# Altium footprint library Digital_Sampling_Board-20200820.PcbLib: 34 footprints (part 3 of 3)
Each footprint in its own frame and in the unit in brackets; x right, y up, seen from the top. Pads: shape width x height; smd on the part's side, far side on the other; paste and mask are expansions set on the pad; w line width, h text height; cw(c..) or ccw(c..) is an arc to the next point about the centre after c.
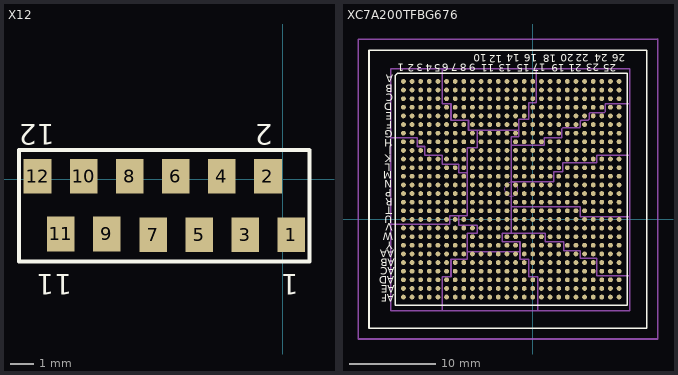
[diagram p2: the footprints below, top view; thin cyan lines are the x and y axes]

## X12 [mm]
pads (12):
  rect 1.2x1.5 smd: 1(0.38,-2.413) 2(-0.636,0.127) 3(-1.62,-2.413) 4(-2.636,0.127) 5(-3.62,-2.413) 6(-4.636,0.127) 7(-5.62,-2.413) 8(-6.636,0.127) 9(-7.636,-2.383) 10(-8.636,0.127) 11(-9.636,-2.383) 12(-10.636,0.127)
Top Overlay:
  lines w0.178: -11.441,-3.583 -11.441,1.257 -2.151,1.257 0.368,1.257 1.156,1.257 1.17,1.243 1.17,-3.583 0.368,-3.583 -2.151,-3.583 -11.441,-3.583
  text "2" at -0.42,2.384 h0.89
  text "1" at 0.69,-4.133 h0.89
  text "11" at -9.137,-4.133 h0.89
  text "12" at -9.895,2.374 h0.89

## XC7A200TFBG676 [mil]
pads (676):
  round 22 smd: A1(-589.63,629.63) A2(-550.26,629.63) A3(-510.89,629.63) A4(-471.52,629.63) A5(-432.15,629.63) A6(-392.78,629.63) A7(-353.41,629.63) A8(-314.04,629.63) A9(-274.67,629.63) A10(-235.3,629.63) A11(-195.93,629.63) A12(-156.56,629.63) A13(-117.19,629.63) A14(-77.81,629.63) A15(-38.44,629.63) A16(0.93,629.63) A17(40.3,629.63) A18(79.67,629.63) A19(119.04,629.63) A20(158.41,629.63) A21(197.78,629.63) A22(237.15,629.63) A23(276.52,629.63) A24(315.89,629.63) A25(355.26,629.63) A26(394.63,629.63) AA1(-589.63,-157.78) AA2(-550.26,-157.78) AA3(-510.89,-157.78) AA4(-471.52,-157.78) AA5(-432.15,-157.78) AA6(-392.78,-157.78) AA7(-353.41,-157.78) AA8(-314.04,-157.78) AA9(-274.67,-157.78) AA10(-235.3,-157.78) AA11(-195.93,-157.78) AA12(-156.56,-157.78) AA13(-117.19,-157.78) AA14(-77.81,-157.78) AA15(-38.44,-157.78) AA16(0.93,-157.78) AA17(40.3,-157.78) AA18(79.67,-157.78) AA19(119.04,-157.78) AA20(158.41,-157.78) AA21(197.78,-157.78) AA22(237.15,-157.78) AA23(276.52,-157.78) AA24(315.89,-157.78) AA25(355.26,-157.78) AA26(394.63,-157.78) AB1(-589.63,-197.15) AB2(-550.26,-197.15) AB3(-510.89,-197.15) AB4(-471.52,-197.15) AB5(-432.15,-197.15) AB6(-392.78,-197.15) AB7(-353.41,-197.15) AB8(-314.04,-197.15) AB9(-274.67,-197.15) AB10(-235.3,-197.15) AB11(-195.93,-197.15) AB12(-156.56,-197.15) AB13(-117.19,-197.15) AB14(-77.81,-197.15) AB15(-38.44,-197.15) AB16(0.93,-197.15) AB17(40.3,-197.15) AB18(79.67,-197.15) AB19(119.04,-197.15) AB20(158.41,-197.15) AB21(197.78,-197.15) AB22(237.15,-197.15) AB23(276.52,-197.15) AB24(315.89,-197.15) AB25(355.26,-197.15) AB26(394.63,-197.15) AC1(-589.63,-236.52) AC2(-550.26,-236.52) AC3(-510.89,-236.52) AC4(-471.52,-236.52) AC5(-432.15,-236.52) AC6(-392.78,-236.52) AC7(-353.41,-236.52) AC8(-314.04,-236.52) AC9(-274.67,-236.52) AC10(-235.3,-236.52) AC11(-195.93,-236.52) AC12(-156.56,-236.52) AC13(-117.19,-236.52) AC14(-77.81,-236.52) AC15(-38.44,-236.52) AC16(0.93,-236.52) AC17(40.3,-236.52) AC18(79.67,-236.52) AC19(119.04,-236.52) AC20(158.41,-236.52) AC21(197.78,-236.52) AC22(237.15,-236.52) AC23(276.52,-236.52) AC24(315.89,-236.52) AC25(355.26,-236.52) AC26(394.63,-236.52) AD1(-589.63,-275.89) AD2(-550.26,-275.89) AD3(-510.89,-275.89) AD4(-471.52,-275.89) AD5(-432.15,-275.89) AD6(-392.78,-275.89) AD7(-353.41,-275.89) AD8(-314.04,-275.89) AD9(-274.67,-275.89) AD10(-235.3,-275.89) AD11(-195.93,-275.89) AD12(-156.56,-275.89) AD13(-117.19,-275.89) AD14(-77.81,-275.89) AD15(-38.44,-275.89) AD16(0.93,-275.89) AD17(40.3,-275.89) AD18(79.67,-275.89) AD19(119.04,-275.89) AD20(158.41,-275.89) AD21(197.78,-275.89) AD22(237.15,-275.89) AD23(276.52,-275.89) AD24(315.89,-275.89) AD25(355.26,-275.89) AD26(394.63,-275.89) AE1(-589.63,-315.26) AE2(-550.26,-315.26) AE3(-510.89,-315.26) AE4(-471.52,-315.26) AE5(-432.15,-315.26) AE6(-392.78,-315.26) AE7(-353.41,-315.26) AE8(-314.04,-315.26) AE9(-274.67,-315.26) AE10(-235.3,-315.26) AE11(-195.93,-315.26) AE12(-156.56,-315.26) AE13(-117.19,-315.26) AE14(-77.81,-315.26) AE15(-38.44,-315.26) AE16(0.93,-315.26) AE17(40.3,-315.26) AE18(79.67,-315.26) AE19(119.04,-315.26) AE20(158.41,-315.26) AE21(197.78,-315.26) AE22(237.15,-315.26) AE23(276.52,-315.26) AE24(315.89,-315.26) AE25(355.26,-315.26) AE26(394.63,-315.26) AF1(-589.63,-354.63) AF2(-550.26,-354.63) AF3(-510.89,-354.63) AF4(-471.52,-354.63) AF5(-432.15,-354.63) AF6(-392.78,-354.63) AF7(-353.41,-354.63) AF8(-314.04,-354.63) AF9(-274.67,-354.63) AF10(-235.3,-354.63) AF11(-195.93,-354.63) AF12(-156.56,-354.63) AF13(-117.19,-354.63) AF14(-77.81,-354.63) AF15(-38.44,-354.63) AF16(0.93,-354.63) AF17(40.3,-354.63) AF18(79.67,-354.63) AF19(119.04,-354.63) AF20(158.41,-354.63) AF21(197.78,-354.63) AF22(237.15,-354.63) AF23(276.52,-354.63) AF24(315.89,-354.63) AF25(355.26,-354.63) AF26(394.63,-354.63) B1(-589.63,590.26) B2(-550.26,590.26) B3(-510.89,590.26) B4(-471.52,590.26) B5(-432.15,590.26) B6(-392.78,590.26) B7(-353.41,590.26) B8(-314.04,590.26) B9(-274.67,590.26) B10(-235.3,590.26) B11(-195.93,590.26) B12(-156.56,590.26) B13(-117.19,590.26) B14(-77.81,590.26) B15(-38.44,590.26) B16(0.93,590.26) B17(40.3,590.26) B18(79.67,590.26) B19(119.04,590.26) B20(158.41,590.26) B21(197.78,590.26) B22(237.15,590.26) B23(276.52,590.26) B24(315.89,590.26) B25(355.26,590.26) B26(394.63,590.26) C1(-589.63,550.89) C2(-550.26,550.89) C3(-510.89,550.89) C4(-471.52,550.89) C5(-432.15,550.89) C6(-392.78,550.89) C7(-353.41,550.89) C8(-314.04,550.89) C9(-274.67,550.89) C10(-235.3,550.89) C11(-195.93,550.89) C12(-156.56,550.89) C13(-117.19,550.89) C14(-77.81,550.89) C15(-38.44,550.89) C16(0.93,550.89) C17(40.3,550.89) C18(79.67,550.89) C19(119.04,550.89) C20(158.41,550.89) C21(197.78,550.89) C22(237.15,550.89) C23(276.52,550.89) C24(315.89,550.89) C25(355.26,550.89) C26(394.63,550.89) D1(-589.63,511.52) D2(-550.26,511.52) D3(-510.89,511.52) D4(-471.52,511.52) D5(-432.15,511.52) D6(-392.78,511.52) D7(-353.41,511.52) D8(-314.04,511.52) D9(-274.67,511.52) D10(-235.3,511.52) D11(-195.93,511.52) D12(-156.56,511.52) D13(-117.19,511.52) D14(-77.81,511.52) D15(-38.44,511.52) D16(0.93,511.52) D17(40.3,511.52) D18(79.67,511.52) D19(119.04,511.52) D20(158.41,511.52) D21(197.78,511.52) D22(237.15,511.52) D23(276.52,511.52) D24(315.89,511.52) D25(355.26,511.52) D26(394.63,511.52) E1(-589.63,472.15) E2(-550.26,472.15) E3(-510.89,472.15) E4(-471.52,472.15) E5(-432.15,472.15) E6(-392.78,472.15) E7(-353.41,472.15) E8(-314.04,472.15) E9(-274.67,472.15) E10(-235.3,472.15) E11(-195.93,472.15) E12(-156.56,472.15) E13(-117.19,472.15) E14(-77.81,472.15) E15(-38.44,472.15) E16(0.93,472.15) E17(40.3,472.15) E18(79.67,472.15) E19(119.04,472.15) E20(158.41,472.15) E21(197.78,472.15) E22(237.15,472.15) E23(276.52,472.15) E24(315.89,472.15) E25(355.26,472.15) E26(394.63,472.15) F1(-589.63,432.78) F2(-550.26,432.78) F3(-510.89,432.78) F4(-471.52,432.78) F5(-432.15,432.78) F6(-392.78,432.78) F7(-353.41,432.78) F8(-314.04,432.78) F9(-274.67,432.78) F10(-235.3,432.78) F11(-195.93,432.78) F12(-156.56,432.78) F13(-117.19,432.78) F14(-77.81,432.78) F15(-38.44,432.78) F16(0.93,432.78) F17(40.3,432.78) F18(79.67,432.78) F19(119.04,432.78) F20(158.41,432.78) F21(197.78,432.78) F22(237.15,432.78) F23(276.52,432.78) F24(315.89,432.78) F25(355.26,432.78) F26(394.63,432.78) G1(-589.63,393.41) G2(-550.26,393.41) G3(-510.89,393.41) G4(-471.52,393.41) G5(-432.15,393.41) G6(-392.78,393.41) G7(-353.41,393.41) G8(-314.04,393.41) G9(-274.67,393.41) G10(-235.3,393.41) G11(-195.93,393.41) G12(-156.56,393.41) G13(-117.19,393.41) G14(-77.81,393.41) G15(-38.44,393.41) G16(0.93,393.41) G17(40.3,393.41) G18(79.67,393.41) G19(119.04,393.41) G20(158.41,393.41) G21(197.78,393.41) G22(237.15,393.41) G23(276.52,393.41) G24(315.89,393.41) G25(355.26,393.41) G26(394.63,393.41) H1(-589.63,354.04) H2(-550.26,354.04) H3(-510.89,354.04) H4(-471.52,354.04) H5(-432.15,354.04) H6(-392.78,354.04) H7(-353.41,354.04) H8(-314.04,354.04) H9(-274.67,354.04) H10(-235.3,354.04) H11(-195.93,354.04) H12(-156.56,354.04) H13(-117.19,354.04) H14(-77.81,354.04) H15(-38.44,354.04) H16(0.93,354.04) H17(40.3,354.04) H18(79.67,354.04) H19(119.04,354.04) H20(158.41,354.04) H21(197.78,354.04) H22(237.15,354.04) H23(276.52,354.04) H24(315.89,354.04) H25(355.26,354.04) H26(394.63,354.04) J1(-589.63,314.67) J2(-550.26,314.67) J3(-510.89,314.67) J4(-471.52,314.67) J5(-432.15,314.67) J6(-392.78,314.67) J7(-353.41,314.67) J8(-314.04,314.67) J9(-274.67,314.67) J10(-235.3,314.67) J11(-195.93,314.67) J12(-156.56,314.67) J13(-117.19,314.67) J14(-77.81,314.67) J15(-38.44,314.67) J16(0.93,314.67) J17(40.3,314.67) J18(79.67,314.67) J19(119.04,314.67) J20(158.41,314.67) J21(197.78,314.67) J22(237.15,314.67) J23(276.52,314.67) J24(315.89,314.67) J25(355.26,314.67) J26(394.63,314.67) K1(-589.63,275.3) K2(-550.26,275.3) K3(-510.89,275.3) K4(-471.52,275.3) K5(-432.15,275.3) K6(-392.78,275.3) K7(-353.41,275.3) K8(-314.04,275.3) K9(-274.67,275.3) K10(-235.3,275.3) K11(-195.93,275.3) K12(-156.56,275.3) K13(-117.19,275.3) K14(-77.81,275.3) K15(-38.44,275.3) K16(0.93,275.3) K17(40.3,275.3) K18(79.67,275.3) K19(119.04,275.3) K20(158.41,275.3) K21(197.78,275.3) K22(237.15,275.3) K23(276.52,275.3) K24(315.89,275.3) K25(355.26,275.3) K26(394.63,275.3) L1(-589.63,235.93) L2(-550.26,235.93) L3(-510.89,235.93) L4(-471.52,235.93) L5(-432.15,235.93) L6(-392.78,235.93) L7(-353.41,235.93) L8(-314.04,235.93) L9(-274.67,235.93) L10(-235.3,235.93) L11(-195.93,235.93) L12(-156.56,235.93) L13(-117.19,235.93) L14(-77.81,235.93) L15(-38.44,235.93) L16(0.93,235.93) L17(40.3,235.93) L18(79.67,235.93) L19(119.04,235.93) L20(158.41,235.93) L21(197.78,235.93) L22(237.15,235.93) L23(276.52,235.93) L24(315.89,235.93) L25(355.26,235.93) L26(394.63,235.93) M1(-589.63,196.56) M2(-550.26,196.56) M3(-510.89,196.56) M4(-471.52,196.56) M5(-432.15,196.56) M6(-392.78,196.56) M7(-353.41,196.56) M8(-314.04,196.56) M9(-274.67,196.56) M10(-235.3,196.56) M11(-195.93,196.56) M12(-156.56,196.56) M13(-117.19,196.56) M14(-77.81,196.56) M15(-38.44,196.56) M16(0.93,196.56) M17(40.3,196.56) M18(79.67,196.56) M19(119.04,196.56) M20(158.41,196.56) M21(197.78,196.56) M22(237.15,196.56) M23(276.52,196.56) M24(315.89,196.56) M25(355.26,196.56) M26(394.63,196.56) N1(-589.63,157.19) N2(-550.26,157.19) N3(-510.89,157.19) N4(-471.52,157.19) N5(-432.15,157.19) N6(-392.78,157.19) N7(-353.41,157.19) N8(-314.04,157.19) N9(-274.67,157.19) N10(-235.3,157.19) N11(-195.93,157.19) N12(-156.56,157.19) N13(-117.19,157.19) N14(-77.81,157.19) N15(-38.44,157.19) N16(0.93,157.19) N17(40.3,157.19) N18(79.67,157.19) N19(119.04,157.19) N20(158.41,157.19) N21(197.78,157.19) N22(237.15,157.19) N23(276.52,157.19) N24(315.89,157.19) N25(355.26,157.19) N26(394.63,157.19) P1(-589.63,117.81) P2(-550.26,117.81) P3(-510.89,117.81) P4(-471.52,117.81) P5(-432.15,117.81) P6(-392.78,117.81) P7(-353.41,117.81) P8(-314.04,117.81) P9(-274.67,117.81) P10(-235.3,117.81) P11(-195.93,117.81) P12(-156.56,117.81) P13(-117.19,117.81) P14(-77.81,117.81) P15(-38.44,117.81) P16(0.93,117.81) P17(40.3,117.81) P18(79.67,117.81) P19(119.04,117.81) P20(158.41,117.81) P21(197.78,117.81) P22(237.15,117.81) P23(276.52,117.81) P24(315.89,117.81) P25(355.26,117.81) P26(394.63,117.81) R1(-589.63,78.44) R2(-550.26,78.44) R3(-510.89,78.44) R4(-471.52,78.44) R5(-432.15,78.44) R6(-392.78,78.44) R7(-353.41,78.44) R8(-314.04,78.44) R9(-274.67,78.44) R10(-235.3,78.44) R11(-195.93,78.44) R12(-156.56,78.44) R13(-117.19,78.44) R14(-77.81,78.44) R15(-38.44,78.44) R16(0.93,78.44) R17(40.3,78.44) R18(79.67,78.44) R19(119.04,78.44) R20(158.41,78.44) R21(197.78,78.44) R22(237.15,78.44) R23(276.52,78.44) R24(315.89,78.44) R25(355.26,78.44) R26(394.63,78.44) T1(-589.63,39.07) T2(-550.26,39.07) T3(-510.89,39.07) T4(-471.52,39.07) T5(-432.15,39.07) T6(-392.78,39.07) T7(-353.41,39.07) T8(-314.04,39.07) T9(-274.67,39.07) T10(-235.3,39.07) T11(-195.93,39.07) T12(-156.56,39.07) T13(-117.19,39.07) T14(-77.81,39.07) T15(-38.44,39.07) T16(0.93,39.07) T17(40.3,39.07) T18(79.67,39.07) T19(119.04,39.07) T20(158.41,39.07) T21(197.78,39.07) T22(237.15,39.07) T23(276.52,39.07) T24(315.89,39.07) T25(355.26,39.07) T26(394.63,39.07) U1(-589.63,-0.3) U2(-550.26,-0.3) U3(-510.89,-0.3) U4(-471.52,-0.3) U5(-432.15,-0.3) U6(-392.78,-0.3) U7(-353.41,-0.3) U8(-314.04,-0.3) U9(-274.67,-0.3) U10(-235.3,-0.3) U11(-195.93,-0.3) U12(-156.56,-0.3) U13(-117.19,-0.3) U14(-77.81,-0.3) U15(-38.44,-0.3) U16(0.93,-0.3) U17(40.3,-0.3) U18(79.67,-0.3) U19(119.04,-0.3) U20(158.41,-0.3) U21(197.78,-0.3) U22(237.15,-0.3) U23(276.52,-0.3) U24(315.89,-0.3) U25(355.26,-0.3) U26(394.63,-0.3) V1(-589.63,-39.67) V2(-550.26,-39.67) V3(-510.89,-39.67) V4(-471.52,-39.67) V5(-432.15,-39.67) V6(-392.78,-39.67) V7(-353.41,-39.67) V8(-314.04,-39.67) V9(-274.67,-39.67) V10(-235.3,-39.67) V11(-195.93,-39.67) V12(-156.56,-39.67) V13(-117.19,-39.67) V14(-77.81,-39.67) V15(-38.44,-39.67) V16(0.93,-39.67) V17(40.3,-39.67) V18(79.67,-39.67) V19(119.04,-39.67) V20(158.41,-39.67) V21(197.78,-39.67) V22(237.15,-39.67) V23(276.52,-39.67) V24(315.89,-39.67) V25(355.26,-39.67) V26(394.63,-39.67) W1(-589.63,-79.04) W2(-550.26,-79.04) W3(-510.89,-79.04) W4(-471.52,-79.04) W5(-432.15,-79.04) W6(-392.78,-79.04) W7(-353.41,-79.04) W8(-314.04,-79.04) W9(-274.67,-79.04) W10(-235.3,-79.04) W11(-195.93,-79.04) W12(-156.56,-79.04) W13(-117.19,-79.04) W14(-77.81,-79.04) W15(-38.44,-79.04) W16(0.93,-79.04) W17(40.3,-79.04) W18(79.67,-79.04) W19(119.04,-79.04) W20(158.41,-79.04) W21(197.78,-79.04) W22(237.15,-79.04) W23(276.52,-79.04) W24(315.89,-79.04) W25(355.26,-79.04) W26(394.63,-79.04) Y1(-589.63,-118.41) Y2(-550.26,-118.41) Y3(-510.89,-118.41) Y4(-471.52,-118.41) Y5(-432.15,-118.41) Y6(-392.78,-118.41) Y7(-353.41,-118.41) Y8(-314.04,-118.41) Y9(-274.67,-118.41) Y10(-235.3,-118.41) Y11(-195.93,-118.41) Y12(-156.56,-118.41) Y13(-117.19,-118.41) Y14(-77.81,-118.41) Y15(-38.44,-118.41) Y16(0.93,-118.41) Y17(40.3,-118.41) Y18(79.67,-118.41) Y19(119.04,-118.41) Y20(158.41,-118.41) Y21(197.78,-118.41) Y22(237.15,-118.41) Y23(276.52,-118.41) Y24(315.89,-118.41) Y25(355.26,-118.41) Y26(394.63,-118.41)
Top Overlay:
  lines w7: -746.64,-496.82 -746.64,771.88 522.06,771.88 522.06,-496.82 -746.64,-496.82 ; -627.03,-392.03 432.03,-392.03 432.03,667.03 -616.79,667.03 -627.03,656.79 -627.03,-392.03
  text "A" at -635.34,660 h35
  text "B" at -639.36,614.17 h35
  text "C" at -635.34,573.18 h35
  text "D" at -640.35,531.94 h35
  text "E" at -639.69,488.75 h35
  text "F" at -640.35,447.76 h35
  text "G" at -639.36,406.77 h35
  text "H" at -640.35,365.77 h35
  text "J" at -643.49,331.39 h35
  text "K" at -642.83,295.16 h35
  text "L" at -646.9,253.48 h35
  text "M" at -639.69,218.54 h35
  text "N" at -640.9,177.55 h35
  text "P" at -642.83,136.56 h35
  text "R" at -639.36,95.56 h35
  text "T" at -640.35,57.04 h35
  text "U" at -639.69,16.04 h35
  text "V" at -638.18,-18.04 h35
  text "W" at -635.81,-60.33 h35
  text "Y" at -639.36,-101.32 h35
  text "AA" at -631.01,-139.12 h35
  text "AB" at -629.81,-180.11 h35
  text "AC" at -629.99,-218.71 h35
  text "AD" at -631.01,-259.7 h35
  text "AE" at -629.99,-300.69 h35
  text "AF" at -631.01,-341.69 h35
  text "1" at -586.23,710 h35
  text "2" at -539.26,709 h35
  text "3" at -499.85,711.37 h35
  text "4" at -457.22,708.66 h35
  text "5" at -419.62,708.47 h35
  text "6" at -382.22,710.02 h35
  text "7" at -342.32,711 h35
  text "8" at -301.22,710.02 h35
  text "9" at -260,710.02 h35
  text "10" at -209.75,752.84 h35
  text "11" at -175.45,707.3 h35
  text "12" at -138.05,749.74 h35
  text "13" at -95.42,708.85 h35
  text "14" at -59.05,752.84 h35
  text "15" at -13.25,709.05 h35
  text "16" at 21.53,752.6 h35
  text "17" at 60.88,709.17 h35
  text "18" at 107.01,751.92 h35
  text "19" at 145.88,708.85 h35
  text "20" at 187.75,753.95 h35
  text "21" at 223.86,708 h35
  text "22" at 257.29,753.27 h35
  text "23" at 303.53,709.17 h35
  text "24" at 343.01,753.27 h35
  text "25" at 382,707.3 h35
  text "26" at 423.31,752.84 h35
Mechanical 2:
  circle w1: c-97.5,137.5 r31.25
  lines w7: 571.1,-542.91 571.1,823.23 ; 571.28,-546.04 -795.85,-546.04 -795.85,821.09 571.28,821.09
Mechanical 16:
  lines w7: -337.5,17.5 -337.5,-27.5 -252.5,-27.5 -252.5,-62.5 -297.5,-62.5 -297.5,-182.5 -372.5,-182.5 -372.5,-262.5 -412.5,-262.5 -412.5,-417.5 ; -297.5,-147.5 -57.5,-147.5 ; -62.5,407.5 -252.5,407.5 ; -647.5,-22.5 -377.5,-22.5 -377.5,17.5 -297.5,17.5 -297.5,212.5 ; -647.5,-22.5 -647.5,372.5 ; -647.5,-22.5 -647.5,-417.5 -412.5,-417.5 ; -647.5,372.5 -647.5,687.5 -412.5,687.5 ; -647.5,372.5 -527.5,372.5 -527.5,332.5 -492.5,332.5 -492.5,292.5 -412.5,292.5 -412.5,252.5 -337.5,252.5 -337.5,212.5 -297.5,212.5 ; -412.5,-417.5 22.5,-417.5 ; -412.5,687.5 17.5,687.5 ; -412.5,687.5 -412.5,527.5 -372.5,527.5 -372.5,452.5 -292.5,452.5 -292.5,407.5 -252.5,407.5 ; -297.5,212.5 -297.5,327.5 -252.5,327.5 -252.5,407.5 ; -97.5,-62.5 -97.5,57.5 ; -97.5,-62.5 57.5,-62.5 57.5,-102.5 142.5,-102.5 142.5,-142.5 217.5,-142.5 217.5,-177.5 292.5,-177.5 292.5,-257.5 442.5,-257.5 ; -97.5,-62.5 -137.5,-62.5 -137.5,-102.5 -57.5,-102.5 -57.5,-182.5 -17.5,-182.5 -17.5,-262.5 22.5,-262.5 22.5,-417.5 ; -97.5,57.5 -97.5,172.5 ; -97.5,57.5 217.5,57.5 217.5,12.5 442.5,12.5 ; -97.5,172.5 -97.5,337.5 ; -97.5,172.5 97.5,172.5 97.5,217.5 137.5,217.5 137.5,257.5 292.5,257.5 292.5,292.5 442.5,292.5 ; -97.5,337.5 52.5,337.5 52.5,372.5 132.5,372.5 132.5,412.5 137.5,417.5 212.5,417.5 217.5,422.5 217.5,447.5 222.5,452.5 252.5,452.5 257.5,457.5 257.5,482.5 262.5,487.5 327.5,487.5 332.5,492.5 332.5,527.5 442.5,527.5 ; -97.5,337.5 -97.5,377.5 -62.5,377.5 -62.5,457.5 -17.5,457.5 -17.5,532.5 17.5,532.5 17.5,657.5 17.5,687.5 ; 17.5,687.5 442.5,687.5 442.5,527.5 ; 22.5,-417.5 442.5,-417.5 442.5,-257.5 ; 442.5,-257.5 442.5,12.5 ; 442.5,12.5 442.5,292.5 ; 442.5,292.5 442.5,527.5
  text "F24" at 339.89,432.78 h35
  text "K19" at 143.04,275.3 h35
  text "R25" at 379.26,78.44 h35
  text "M16" at 24.93,196.56 h35
  text "Bank 15" at 417.5,452.5 h35
  text "Bank 14" at 417.5,207.5 h35
  text "Bank 13" at 417.5,-52.5 h35
  text "Bank 16" at 352.5,677.5 h35
  text "Bank 12" at 292.5,-387.5 h35
  text "Bank MGT-116" at -117.5,677.5 h35
  text "Bank MGT-113" at -122.5,-387.5 h35
  text "Bank 35" at -477.5,677.5 h35
  text "Bank 34" at -637.5,272.5 h35
  text "Bank 33" at -637.5,-197.5 h35
  text "B16" at 24.93,590.26 h35
  text "AD16" at 32.93,-275.89 h35
  text "B15" at -14.44,590.26 h35
  text "A14" at -53.81,629.63 h35
  text "E12" at -132.56,472.15 h35
  text "C13" at -93.19,550.89 h35
  text "E15" at -14.44,472.15 h35
  text "J12" at -132.56,314.67 h35
  text "G13" at -93.19,393.41 h35
  text "L12" at -132.56,235.93 h35
  text "M13" at -93.19,196.56 h35
  text "U12" at -132.56,-0.3 h35
  text "T13" at -93.19,39.07 h35
  text "W12" at -132.56,-79.04 h35
  text "AB12" at -124.56,-197.15 h35
  text "AF12" at -124.56,-354.63 h35
  text "AD13" at -85.19,-275.89 h35
  text "AC15" at -6.44,-236.52 h35
  text "C9" at -258.67,550.89 h35
  text "E10" at -211.3,472.15 h35
  text "F9" at -258.67,432.78 h35
  text "G11" at -171.93,393.41 h35
  text "K9" at -258.67,275.3 h35
  text "K11" at -171.93,275.3 h35
  text "L10" at -211.3,235.93 h35
  text "M9" at -258.67,196.56 h35
  text "P9" at -258.67,117.81 h35
  text "AA9" at -250.67,-157.78 h35
  text "AF10" at -203.3,-354.63 h35
  text "AD9" at -250.67,-275.89 h35
  text "AD11" at -163.93,-275.89 h35
  text "D7" at -337.41,511.52 h35
  text "P7" at -337.41,117.81 h35
  text "AD6" at -368.78,-275.89 h35
  text "M3" at -494.89,196.56 h35
  text "A8" at -298.04,629.63 h35
  text "AB23" at 308.52,-197.15 h35
  text "W22" at 261.15,-79.04 h35
  text "V25" at 379.26,-39.67 h35
  text "T21" at 221.78,39.07 h35
  text "R24" at 339.89,78.44 h35
  text "A26" at 418.63,629.63 h35
  text "B23" at 300.52,590.26 h35
  text "A16" at 24.93,629.63 h35
  text "A10" at -211.3,629.63 h35
  text "A12" at -132.56,629.63 h35
  text "B6" at -376.78,590.26 h35
  text "A6" at -376.78,629.63 h35
  text "B3" at -494.89,590.26 h35
  text "C20" at 182.41,550.89 h35
  text "F21" at 221.78,432.78 h35
  text "E24" at 339.89,472.15 h35
  text "C16" at 24.93,550.89 h35
  text "D17" at 64.3,511.52 h35
  text "F14" at -53.81,432.78 h35
  text "E14" at -53.81,472.15 h35
  text "D15" at -14.44,511.52 h35
  text "E8" at -298.04,472.15 h35
  text "E9" at -258.67,472.15 h35
  text "C11" at -171.93,550.89 h35
  text "C6" at -376.78,550.89 h35
  text "E7" at -337.41,472.15 h35
  text "E4" at -455.52,472.15 h35
  text "F1" at -573.63,432.78 h35
  text "H25" at 379.26,354.04 h35
  text "J22" at 261.15,314.67 h35
  text "G18" at 103.67,393.41 h35
  text "K13" at -93.19,275.3 h35
  text "G10" at -211.3,393.41 h35
  text "G12" at -132.56,393.41 h35
  text "H5" at -416.15,354.04 h35
  text "J2" at -534.26,314.67 h35
  text "L26" at 418.63,235.93 h35
  text "N20" at 182.41,157.19 h35
  text "M23" at 300.52,196.56 h35
  text "P17" at 64.3,117.81 h35
  text "L16" at 24.93,235.93 h35
  text "P13" at -93.19,117.81 h35
  text "N10" at -211.3,157.19 h35
  text "L6" at -376.78,235.93 h35
  text "U18" at 103.67,-0.3 h35
  text "V13" at -93.19,-39.67 h35
  text "V15" at -14.44,-39.67 h35
  text "U10" at -211.3,-0.3 h35
  text "T11" at -171.93,39.07 h35
  text "U8" at -298.04,-0.3 h35
  text "T9" at -258.67,39.07 h35
  text "R10" at -211.3,78.44 h35
  text "V5" at -416.15,-39.67 h35
  text "R4" at -455.52,78.44 h35
  text "T1" at -573.63,39.07 h35
  text "AA16" at 32.93,-157.78 h35
  text "Y19" at 143.04,-118.41 h35
  text "Y13" at -93.19,-118.41 h35
  text "AB14" at -45.81,-197.15 h35
  text "AA14" at -45.81,-157.78 h35
  text "AB8" at -290.04,-197.15 h35
  text "AB9" at -250.67,-197.15 h35
  text "Y10" at -211.3,-118.41 h35
  text "AB10" at -203.3,-197.15 h35
  text "Y11" at -171.93,-118.41 h35
  text "Y12" at -132.56,-118.41 h35
  text "AA6" at -368.78,-157.78 h35
  text "AB3" at -486.89,-197.15 h35
  text "W2" at -534.26,-79.04 h35
  text "AC20" at 190.41,-236.52 h35
  text "AF21" at 229.78,-354.63 h35
  text "AE24" at 347.89,-315.26 h35
  text "AF16" at 32.93,-354.63 h35
  text "AF14" at -45.81,-354.63 h35
  text "AE15" at -6.44,-315.26 h35
  text "AF8" at -290.04,-354.63 h35
  text "AE4" at -447.52,-315.26 h35
  text "AF6" at -368.78,-354.63 h35
  text "AE6" at -368.78,-315.26 h35
  text "AC7" at -329.41,-236.52 h35
  text "AF1" at -565.63,-354.63 h35
  text "AA26" at 426.63,-157.78 h35
  text "U4" at -455.52,-0.3 h35
  text "M4" at -455.52,196.56 h35
  text "J3" at -494.89,314.67 h35
  text "J1" at -573.63,314.67 h35
  text "L4" at -455.52,235.93 h35
  text "K5" at -416.15,275.3 h35
  text "M7" at -337.41,196.56 h35
  text "K1" at -573.63,275.3 h35
  text "M6" at -376.78,196.56 h35
  text "H1" at -573.63,354.04 h35
  text "K3" at -494.89,275.3 h35
  text "N7" at -337.41,157.19 h35
  text "L5" at -416.15,235.93 h35
  text "L7" at -337.41,235.93 h35
  text "N6" at -376.78,157.19 h35
  text "L3" at -494.89,235.93 h35
  text "K2" at -534.26,275.3 h35
  text "N1" at -573.63,157.19 h35
  text "M1" at -573.63,196.56 h35
  text "H2" at -534.26,354.04 h35
  text "T4" at -455.52,39.07 h35
  text "P4" at -455.52,117.81 h35
  text "N4" at -455.52,157.19 h35
  text "L2" at -534.26,235.93 h35
  text "M2" at -534.26,196.56 h35
  text "N2" at -534.26,157.19 h35
  text "N3" at -494.89,157.19 h35
  text "AB6" at -368.78,-197.15 h35
  text "AA8" at -290.04,-157.78 h35
  text "Y8" at -298.04,-118.41 h35
  text "AB5" at -408.15,-197.15 h35
  text "AA5" at -408.15,-157.78 h35
  text "Y5" at -416.15,-118.41 h35
  text "Y6" at -376.78,-118.41 h35
  text "Y7" at -337.41,-118.41 h35
  text "AF4" at -447.52,-354.63 h35
  text "AF5" at -408.15,-354.63 h35
  text "AF3" at -486.89,-354.63 h35
  text "AE3" at -486.89,-315.26 h35
  text "AD3" at -486.89,-275.89 h35
  text "AC3" at -486.89,-236.52 h35
  text "AB4" at -447.52,-197.15 h35
  text "AA4" at -447.52,-157.78 h35
  text "AC2" at -526.26,-236.52 h35
  text "AB2" at -526.26,-197.15 h35
  text "AF2" at -526.26,-354.63 h35
  text "AE2" at -526.26,-315.26 h35
  text "Y1" at -573.63,-118.41 h35
  text "Y2" at -534.26,-118.41 h35
  text "AC1" at -565.63,-236.52 h35
  text "AB1" at -565.63,-197.15 h35
  text "Y3" at -494.89,-118.41 h35
  text "W3" at -494.89,-79.04 h35
  text "W6" at -376.78,-79.04 h35
  text "V6" at -376.78,-39.67 h35
  text "W4" at -455.52,-79.04 h35
  text "W5" at -416.15,-79.04 h35
  text "W1" at -573.63,-79.04 h35
  text "V1" at -573.63,-39.67 h35
  text "G2" at -534.26,393.41 h35
  text "D1" at -573.63,511.52 h35
  text "E1" at -573.63,472.15 h35
  text "E2" at -534.26,472.15 h35
  text "F2" at -534.26,432.78 h35
  text "A2" at -534.26,629.63 h35
  text "A3" at -494.89,629.63 h35
  text "C2" at -534.26,550.89 h35
  text "C3" at -494.89,550.89 h35
  text "D3" at -494.89,511.52 h35
  text "A4" at -455.52,629.63 h35
  text "B4" at -455.52,590.26 h35
  text "C4" at -455.52,550.89 h35
  text "D4" at -455.52,511.52 h35
  text "D5" at -416.15,511.52 h35
  text "E5" at -416.15,472.15 h35
  text "F4" at -455.52,432.78 h35
  text "G4" at -455.52,393.41 h35
  text "K6" at -376.78,275.3 h35
  text "K7" at -337.41,275.3 h35
  text "K8" at -298.04,275.3 h35
  text "L8" at -298.04,235.93 h35
  text "J5" at -416.15,314.67 h35
  text "J6" at -376.78,314.67 h35
  text "G6" at -376.78,393.41 h35
  text "H6" at -376.78,354.04 h35
  text "F7" at -337.41,432.78 h35
  text "F8" at -298.04,432.78 h35
  text "G8" at -298.04,393.41 h35
  text "H8" at -298.04,354.04 h35
  text "D6" at -376.78,511.52 h35
  text "E6" at -376.78,472.15 h35
  text "AC6" at -368.78,-236.52 h35
  text "AC4" at -447.52,-236.52 h35
  text "AA3" at -486.89,-157.78 h35
  text "U7" at -337.41,-0.3 h35
  text "G1" at -573.63,393.41 h35
  text "F3" at -494.89,432.78 h35
  text "G5" at -416.15,393.41 h35
  text "H9" at -258.67,354.04 h35
  text "W8" at -298.04,-79.04 h35
  text "V8" at -298.04,-39.67 h35
  text "AE5" at -408.15,-315.26 h35
  text "AD5" at -408.15,-275.89 h35
  text "AE1" at -565.63,-315.26 h35
  text "AD1" at -565.63,-275.89 h35
  text "V2" at -534.26,-39.67 h35
  text "V3" at -494.89,-39.67 h35
  text "B1" at -573.63,590.26 h35
  text "C1" at -573.63,550.89 h35
  text "A5" at -416.15,629.63 h35
  text "B5" at -416.15,590.26 h35
  text "H4" at -455.52,354.04 h35
  text "J4" at -455.52,314.67 h35
  text "G7" at -337.41,393.41 h35
  text "H7" at -337.41,354.04 h35
  text "R2" at -534.26,78.44 h35
  text "U2" at -534.26,-0.3 h35
  text "P1" at -573.63,117.81 h35
  text "N8" at -298.04,157.19 h35
  text "T3" at -494.89,39.07 h35
  text "T2" at -534.26,39.07 h35
  text "U1" at -573.63,-0.3 h35
  text "R1" at -573.63,78.44 h35
  text "R14" at -53.81,78.44 h35
  text "R15" at -14.44,78.44 h35
  text "P14" at -53.81,117.81 h35
  text "N14" at -53.81,157.19 h35
  text "V11" at -171.93,-39.67 h35
  text "P8" at -298.04,117.81 h35
  text "R7" at -337.41,78.44 h35
  text "R6" at -376.78,78.44 h35
  text "U6" at -376.78,-0.3 h35
  text "U5" at -416.15,-0.3 h35
  text "P6" at -376.78,117.81 h35
  text "T5" at -416.15,39.07 h35
  text "R5" at -416.15,78.44 h35
  text "N18" at 103.67,157.19 h35
  text "K25" at 379.26,275.3 h35
  text "L25" at 379.26,235.93 h35
  text "M24" at 339.89,196.56 h35
  text "M25" at 379.26,196.56 h35
  text "L22" at 261.15,235.93 h35
  text "L20" at 182.41,235.93 h35
  text "L23" at 300.52,235.93 h35
  text "L24" at 339.89,235.93 h35
  text "E11" at -171.93,472.15 h35
  text "F11" at -171.93,432.78 h35
  text "C12" at -132.56,550.89 h35
  text "D12" at -132.56,511.52 h35
  text "A13" at -93.19,629.63 h35
  text "B13" at -93.19,590.26 h35
  text "C14" at -53.81,550.89 h35
  text "D14" at -53.81,511.52 h35
  text "A11" at -171.93,629.63 h35
  text "B11" at -171.93,590.26 h35
  text "C10" at -211.3,550.89 h35
  text "D10" at -211.3,511.52 h35
  text "A9" at -258.67,629.63 h35
  text "B9" at -258.67,590.26 h35
  text "C8" at -298.04,550.89 h35
  text "D8" at -298.04,511.52 h35
  text "A7" at -337.41,629.63 h35
  text "B7" at -337.41,590.26 h35
  text "K26" at 418.63,275.3 h35
  text "W18" at 103.67,-79.04 h35
  text "T14" at -53.81,39.07 h35
  text "U17" at 64.3,-0.3 h35
  text "V17" at 64.3,-39.67 h35
  text "V16" at 24.93,-39.67 h35
  text "V14" at -53.81,-39.67 h35
  text "U16" at 24.93,-0.3 h35
  text "U15" at -14.44,-0.3 h35
  text "T18" at 103.67,39.07 h35
  text "T17" at 64.3,39.07 h35
  text "R23" at 300.52,78.44 h35
  text "AD12" at -124.56,-275.89 h35
  text "AC12" at -124.56,-236.52 h35
  text "R18" at 103.67,78.44 h35
  text "AD10" at -203.3,-275.89 h35
  text "AC10" at -203.3,-236.52 h35
  text "P3" at -494.89,117.81 h35
  text "R3" at -494.89,78.44 h35
  text "H23" at 300.52,354.04 h35
  text "J23" at 300.52,314.67 h35
  text "T7" at -337.41,39.07 h35
  text "T8" at -298.04,39.07 h35
  text "L13" at -93.19,235.93 h35
  text "L11" at -171.93,235.93 h35
  text "K12" at -132.56,275.3 h35
  text "K10" at -211.3,275.3 h35
  text "J13" at -93.19,314.67 h35
  text "J11" at -171.93,314.67 h35
  text "V10" at -211.3,-39.67 h35
  text "V12" at -132.56,-39.67 h35
  text "M10" at -211.3,196.56 h35
  text "P10" at -211.3,117.81 h35
  text "U11" at -171.93,-0.3 h35
  text "T12" at -132.56,39.07 h35
  text "T10" at -211.3,39.07 h35
  text "V7" at -337.41,-39.67 h35
  text "AA7" at -329.41,-157.78 h35
  text "M5" at -416.15,196.56 h35
  text "P5" at -416.15,117.81 h35
  text "G9" at -258.67,393.41 h35
  text "B2" at -534.26,590.26 h35
  text "J9" at -258.67,314.67 h35
  text "L9" at -258.67,235.93 h35
  text "N9" at -258.67,157.19 h35
  text "R9" at -258.67,78.44 h35
  text "U9" at -258.67,-0.3 h35
  text "C7" at -337.41,550.89 h35
  text "C15" at -14.44,550.89 h35
  text "B8" at -298.04,590.26 h35
  text "B14" at -53.81,590.26 h35
  text "B12" at -132.56,590.26 h35
  text "B10" at -211.3,590.26 h35
  text "AE12" at -124.56,-315.26 h35
  text "AD15" at -6.44,-275.89 h35
  text "AE14" at -45.81,-315.26 h35
  text "AE10" at -203.3,-315.26 h35
  text "AE8" at -290.04,-315.26 h35
  text "AD7" at -329.41,-275.89 h35
  text "M20" at 182.41,196.56 h35
  text "N22" at 261.15,157.19 h35
  text "P20" at 182.41,117.81 h35
  text "N21" at 221.78,157.19 h35
  text "N24" at 339.89,157.19 h35
  text "N23" at 300.52,157.19 h35
  text "P19" at 143.04,117.81 h35
  text "N19" at 143.04,157.19 h35
  text "P23" at 300.52,117.81 h35
  text "P24" at 339.89,117.81 h35
  text "R20" at 182.41,78.44 h35
  text "P21" at 221.78,117.81 h35
  text "M22" at 261.15,196.56 h35
  text "M21" at 221.78,196.56 h35
  text "M11" at -171.93,196.56 h35
  text "N11" at -171.93,157.19 h35
  text "R11" at -171.93,78.44 h35
  text "R12" at -132.56,78.44 h35
  text "M12" at -132.56,196.56 h35
  text "P12" at -132.56,117.81 h35
  text "W10" at -211.3,-79.04 h35
  text "AB7" at -329.41,-197.15 h35
  text "Y9" at -258.67,-118.41 h35
  text "W9" at -258.67,-79.04 h35
  text "AE16" at 32.93,-315.26 h35
  text "G14" at -53.81,393.41 h35
  text "AC13" at -85.19,-236.52 h35
  text "F12" at -132.56,432.78 h35
  text "AA12" at -124.56,-157.78 h35
  text "F10" at -211.3,432.78 h35
  text "AA10" at -203.3,-157.78 h35
  text "AC9" at -250.67,-236.52 h35
  text "AC11" at -163.93,-236.52 h35
  text "D11" at -171.93,511.52 h35
  text "D13" at -93.19,511.52 h35
  text "D9" at -258.67,511.52 h35
  text "R17" at 64.3,78.44 h35
  text "D24" at 339.89,511.52 h35
  text "D23" at 300.52,511.52 h35
  text "H12" at -132.56,354.04 h35
  text "H11" at -171.93,354.04 h35
  text "H13" at -93.19,354.04 h35
  text "J26" at 418.63,314.67 h35
  text "J25" at 379.26,314.67 h35
  text "P16" at 24.93,117.81 h35
  text "J10" at -211.3,314.67 h35
  text "H10" at -211.3,354.04 h35
  text "W21" at 221.78,-79.04 h35
  text "V21" at 221.78,-39.67 h35
  text "AA24" at 347.89,-157.78 h35
  text "Y25" at 379.26,-118.41 h35
  text "Y26" at 418.63,-118.41 h35
  text "V26" at 418.63,-39.67 h35
  text "W26" at 418.63,-79.04 h35
  text "W25" at 379.26,-79.04 h35
  text "W24" at 339.89,-79.04 h35
  text "U26" at 418.63,-0.3 h35
  text "U25" at 379.26,-0.3 h35
  text "V24" at 339.89,-39.67 h35
  text "AB26" at 426.63,-197.15 h35
  text "AA22" at 269.15,-157.78 h35
  text "Y21" at 221.78,-118.41 h35
  text "AC26" at 426.63,-236.52 h35
  text "T20" at 182.41,39.07 h35
  text "P18" at 103.67,117.81 h35
  text "M26" at 418.63,196.56 h35
  text "T24" at 339.89,39.07 h35
  text "R16" at 24.93,78.44 h35
  text "R8" at -298.04,78.44 h35
  text "R26" at 418.63,78.44 h35
  text "R13" at -93.19,78.44 h35
  text "W13" at -93.19,-79.04 h35
  text "N13" at -93.19,157.19 h35
  text "U13" at -93.19,-0.3 h35
  text "H17" at 64.3,354.04 h35
  text "E22" at 261.15,472.15 h35
  text "K18" at 103.67,275.3 h35
  text "L19" at 143.04,235.93 h35
  text "C19" at 143.04,550.89 h35
  text "D19" at 143.04,511.52 h35
  text "H22" at 261.15,354.04 h35
  text "H21" at 221.78,354.04 h35
  text "AB19" at 151.04,-197.15 h35
  text "AA19" at 151.04,-157.78 h35
  text "AC21" at 229.78,-236.52 h35
  text "AB21" at 229.78,-197.15 h35
  text "AE26" at 426.63,-315.26 h35
  text "AE25" at 387.26,-315.26 h35
  text "AC23" at 308.52,-236.52 h35
  text "AC22" at 269.15,-236.52 h35
  text "AF25" at 387.26,-354.63 h35
  text "AD26" at 426.63,-275.89 h35
  text "AD25" at 387.26,-275.89 h35
  text "AF23" at 308.52,-354.63 h35
  text "AE23" at 308.52,-315.26 h35
  text "AD24" at 347.89,-275.89 h35
  text "AD23" at 308.52,-275.89 h35
  text "AE21" at 229.78,-315.26 h35
  text "AD21" at 229.78,-275.89 h35
  text "AF20" at 190.41,-354.63 h35
  text "AF19" at 151.04,-354.63 h35
  text "AE22" at 269.15,-315.26 h35
  text "AE20" at 190.41,-315.26 h35
  text "AD20" at 190.41,-275.89 h35
  text "AD19" at 151.04,-275.89 h35
  text "AC19" at 151.04,-236.52 h35
  text "AD18" at 111.67,-275.89 h35
  text "AC18" at 111.67,-236.52 h35
  text "AF18" at 111.67,-354.63 h35
  text "AE18" at 111.67,-315.26 h35
  text "AA18" at 111.67,-157.78 h35
  text "Y18" at 103.67,-118.41 h35
  text "AF17" at 72.3,-354.63 h35
  text "AE17" at 72.3,-315.26 h35
  text "AB20" at 190.41,-197.15 h35
  text "AA20" at 190.41,-157.78 h35
  text "AB17" at 72.3,-197.15 h35
  text "AA17" at 72.3,-157.78 h35
  text "AD17" at 72.3,-275.89 h35
  text "AC17" at 72.3,-236.52 h35
  text "Y17" at 64.3,-118.41 h35
  text "Y16" at 24.93,-118.41 h35
  text "AC16" at 32.93,-236.52 h35
  text "AB16" at 32.93,-197.15 h35
  text "AA15" at -6.44,-157.78 h35
  text "Y15" at -14.44,-118.41 h35
  text "W15" at -14.44,-79.04 h35
  text "W14" at -53.81,-79.04 h35
  text "C18" at 103.67,550.89 h35
  text "D18" at 103.67,511.52 h35
  text "E18" at 103.67,472.15 h35
  text "E17" at 64.3,472.15 h35
  text "H15" at -14.44,354.04 h35
  text "H14" at -53.81,354.04 h35
  text "F17" at 64.3,432.78 h35
  text "G17" at 64.3,393.41 h35
  text "F19" at 143.04,432.78 h35
  text "F18" at 103.67,432.78 h35
  text "F15" at -14.44,432.78 h35
  text "G15" at -14.44,393.41 h35
  text "F20" at 182.41,432.78 h35
  text "G19" at 143.04,393.41 h35
  text "G16" at 24.93,393.41 h35
  text "H16" at 24.93,354.04 h35
  text "B17" at 64.3,590.26 h35
  text "C17" at 64.3,550.89 h35
  text "D16" at 24.93,511.52 h35
  text "E16" at 24.93,472.15 h35
  text "A18" at 103.67,629.63 h35
  text "A17" at 64.3,629.63 h35
  text "A19" at 143.04,629.63 h35
  text "B19" at 143.04,590.26 h35
  text "D20" at 182.41,511.52 h35
  text "E20" at 182.41,472.15 h35
  text "A20" at 182.41,629.63 h35
  text "B20" at 182.41,590.26 h35
  text "B21" at 221.78,590.26 h35
  text "C21" at 221.78,550.89 h35
  text "A22" at 261.15,629.63 h35
  text "B22" at 261.15,590.26 h35
  text "D21" at 221.78,511.52 h35
  text "E21" at 221.78,472.15 h35
  text "J21" at 221.78,314.67 h35
  text "K21" at 221.78,275.3 h35
  text "G21" at 221.78,393.41 h35
  text "G20" at 182.41,393.41 h35
  text "L14" at -53.81,235.93 h35
  text "M14" at -53.81,196.56 h35
  text "M17" at 64.3,196.56 h35
  text "H19" at 143.04,354.04 h35
  text "J19" at 143.04,314.67 h35
  text "L18" at 103.67,235.93 h35
  text "L17" at 64.3,235.93 h35
  text "J20" at 182.41,314.67 h35
  text "K20" at 182.41,275.3 h35
  text "H18" at 103.67,354.04 h35
  text "J18" at 103.67,314.67 h35
  text "F22" at 261.15,432.78 h35
  text "G22" at 261.15,393.41 h35
  text "H24" at 339.89,354.04 h35
  text "J24" at 339.89,314.67 h35
  text "E23" at 300.52,472.15 h35
  text "F23" at 300.52,432.78 h35
  text "K23" at 300.52,275.3 h35
  text "K22" at 261.15,275.3 h35
  text "G24" at 339.89,393.41 h35
  text "D25" at 379.26,511.52 h35
  text "E25" at 379.26,472.15 h35
  text "D26" at 418.63,511.52 h35
  text "E26" at 418.63,472.15 h35
  text "G26" at 418.63,393.41 h35
  text "H26" at 418.63,354.04 h35
  text "F25" at 379.26,432.78 h35
  text "G25" at 379.26,393.41 h35
  text "N17" at 64.3,157.19 h35
  text "N16" at 24.93,157.19 h35
  text "P2" at -534.26,117.81 h35
  text "U3" at -494.89,-0.3 h35
  text "AA1" at -565.63,-157.78 h35
  text "T6" at -376.78,39.07 h35
  text "Y4" at -455.52,-118.41 h35
  text "W7" at -337.41,-79.04 h35
  text "A1" at -573.63,629.63 h35
  text "C5" at -416.15,550.89 h35
  text "F6" at -376.78,432.78 h35
  text "D2" at -534.26,511.52 h35
  text "K4" at -455.52,275.3 h35
  text "J7" at -337.41,314.67 h35
  text "G3" at -494.89,393.41 h35
  text "N5" at -416.15,157.19 h35
  text "L1" at -573.63,235.93 h35
  text "AC5" at -408.15,-236.52 h35
  text "AD2" at -526.26,-275.89 h35
  text "M8" at -298.04,196.56 h35
  text "U20" at 182.41,-0.3 h35
  text "W23" at 300.52,-79.04 h35
  text "W20" at 182.41,-79.04 h35
  text "U24" at 339.89,-0.3 h35
  text "Y20" at 182.41,-118.41 h35
  text "V23" at 300.52,-39.67 h35
  text "AA23" at 308.52,-157.78 h35
  text "AA25" at 387.26,-157.78 h35
  text "AB25" at 387.26,-197.15 h35
  text "AC24" at 347.89,-236.52 h35
  text "AB24" at 347.89,-197.15 h35
  text "Y22" at 261.15,-118.41 h35
  text "Y23" at 300.52,-118.41 h35
  text "V22" at 261.15,-39.67 h35
  text "V18" at 103.67,-39.67 h35
  text "U21" at 221.78,-0.3 h35
  text "U14" at -53.81,-0.3 h35
  text "U22" at 261.15,-0.3 h35
  text "T15" at -14.44,39.07 h35
  text "M19" at 143.04,196.56 h35
  text "B24" at 339.89,590.26 h35
  text "W19" at 143.04,-79.04 h35
  text "V19" at 143.04,-39.67 h35
  text "U19" at 143.04,-0.3 h35
  text "T19" at 143.04,39.07 h35
  text "AE19" at 151.04,-315.26 h35
  text "AD22" at 269.15,-275.89 h35
  text "AF26" at 426.63,-354.63 h35
  text "AB18" at 111.67,-197.15 h35
  text "W17" at 64.3,-79.04 h35
  text "AA21" at 229.78,-157.78 h35
  text "K14" at -53.81,275.3 h35
  text "M18" at 103.67,196.56 h35
  text "J17" at 64.3,314.67 h35
  text "H20" at 182.41,354.04 h35
  text "G23" at 300.52,393.41 h35
  text "F16" at 24.93,432.78 h35
  text "E19" at 143.04,472.15 h35
  text "A21" at 221.78,629.63 h35
  text "B18" at 103.67,590.26 h35
  text "F26" at 418.63,432.78 h35
  text "C25" at 379.26,550.89 h35
  text "D22" at 261.15,511.52 h35
  text "Y24" at 339.89,-118.41 h35
  text "V20" at 182.41,-39.67 h35
  text "U23" at 300.52,-0.3 h35
  text "T26" at 418.63,39.07 h35
  text "T16" at 24.93,39.07 h35
  text "AC25" at 387.26,-236.52 h35
  text "AF9" at -250.67,-354.63 h35
  text "AE9" at -250.67,-315.26 h35
  text "AF13" at -85.19,-354.63 h35
  text "AE13" at -85.19,-315.26 h35
  text "AD8" at -290.04,-275.89 h35
  text "AC8" at -290.04,-236.52 h35
  text "AD14" at -45.81,-275.89 h35
  text "AC14" at -45.81,-236.52 h35
  text "A24" at 339.89,629.63 h35
  text "C26" at 418.63,550.89 h35
  text "N26" at 418.63,157.19 h35
  text "R21" at 221.78,78.44 h35
  text "P25" at 379.26,117.81 h35
  text "P26" at 418.63,117.81 h35
  text "T22" at 261.15,39.07 h35
  text "R22" at 261.15,78.44 h35
  text "T23" at 300.52,39.07 h35
  text "B26" at 418.63,590.26 h35
  text "C24" at 339.89,550.89 h35
  text "AF11" at -163.93,-354.63 h35
  text "AE11" at -163.93,-315.26 h35
  text "AF7" at -329.41,-354.63 h35
  text "AE7" at -329.41,-315.26 h35
  text "K17" at 64.3,275.3 h35
  text "K16" at 24.93,275.3 h35
  text "L15" at -14.44,235.93 h35
  text "M15" at -14.44,196.56 h35
  text "J16" at 24.93,314.67 h35
  text "K15" at -14.44,275.3 h35
  text "J15" at -14.44,314.67 h35
  text "J14" at -53.81,314.67 h35
  text "P11" at -171.93,117.81 h35
  text "N12" at -132.56,157.19 h35
  text "P15" at -14.44,117.81 h35
  text "K24" at 339.89,275.3 h35
  text "N25" at 379.26,157.19 h35
  text "P22" at 261.15,117.81 h35
  text "L21" at 221.78,235.93 h35
  text "N15" at -14.44,157.19 h35
  text "W11" at -171.93,-79.04 h35
  text "R19" at 143.04,78.44 h35
  text "Y14" at -53.81,-118.41 h35
  text "AB15" at -6.44,-197.15 h35
  text "B25" at 379.26,590.26 h35
  text "A25" at 379.26,629.63 h35
  text "A23" at 300.52,629.63 h35
  text "AF15" at -6.44,-354.63 h35
  text "A15" at -14.44,629.63 h35
  text "AB13" at -85.19,-197.15 h35
  text "AA13" at -85.19,-157.78 h35
  text "AB11" at -163.93,-197.15 h35
  text "AA11" at -163.93,-157.78 h35
  text "J8" at -298.04,314.67 h35
  text "F5" at -416.15,432.78 h35
  text "E3" at -494.89,472.15 h35
  text "H3" at -494.89,354.04 h35
  text "V4" at -455.52,-39.67 h35
  text "AA2" at -526.26,-157.78 h35
  text "AD4" at -447.52,-275.89 h35
  text "V9" at -258.67,-39.67 h35
  text "C22" at 261.15,550.89 h35
  text "C23" at 300.52,550.89 h35
  text "W16" at 24.93,-79.04 h35
  text "AB22" at 269.15,-197.15 h35
  text "F13" at -93.19,432.78 h35
  text "E13" at -93.19,472.15 h35